# Altium integrated library NSC Interface.IntLib: 511 symbols (part 4 of 17)
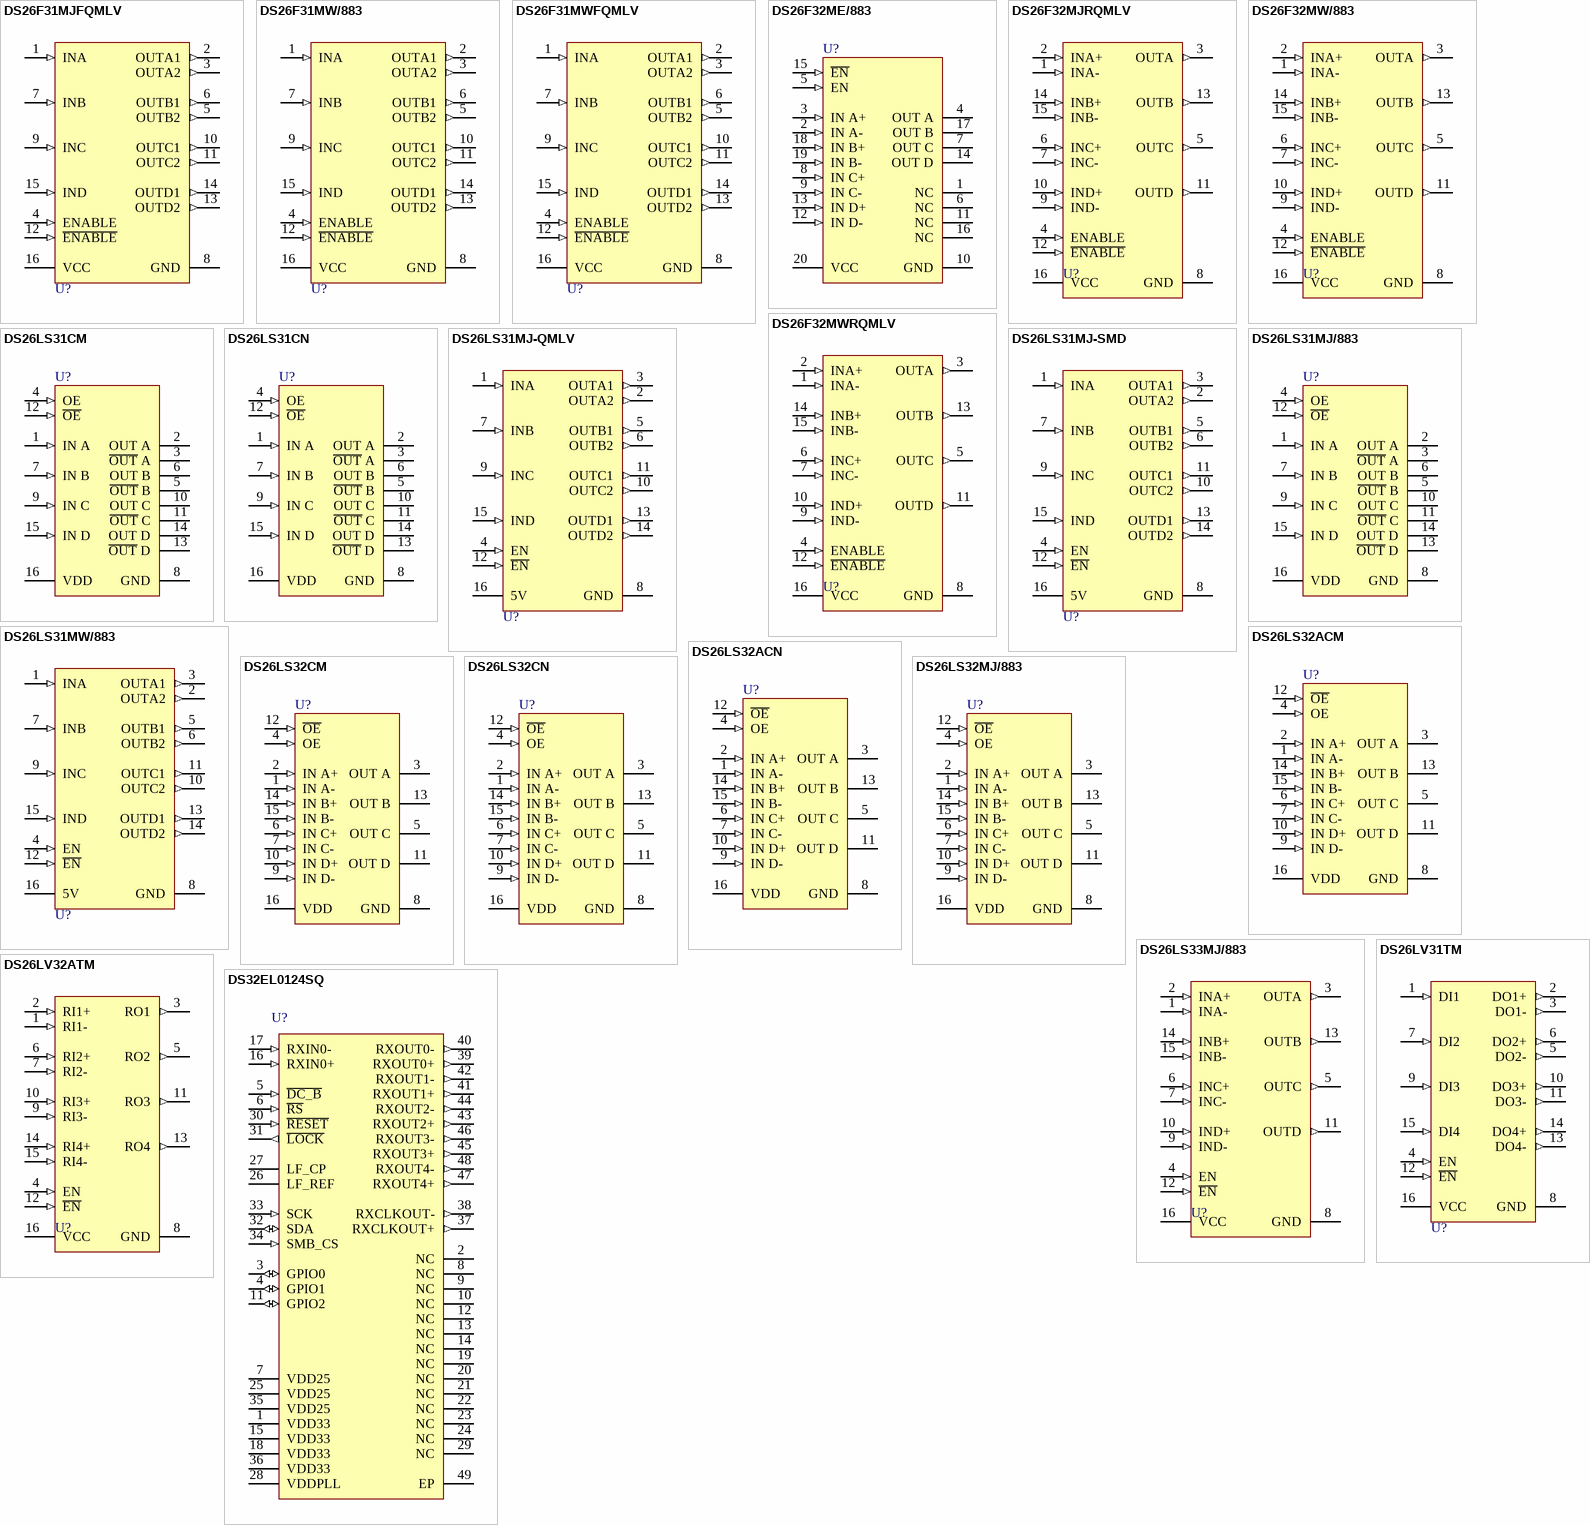
[diagram p45: symbols DS26F31MJFQMLV to DS32EL0124SQ]

## DS26F32ME/883
designator U?
Quad Differential Line Receiver; PartNumber: DS26F32ME/883; Manufacturer: National Semiconductor; CompType: Interface IC; PackageTopMarking: NS*ZSSXXYYA*DS26F32ME/*883 Q 5962-*7802005M2A; PowerWise: N; Published: 4-Dec-2008; DatasheetVersion: May-1999; PackageVersion: revF, May-2004; PackageReference: E20A; Publisher: Altium Limited; PackageDescription: Leadless Chip Carrier, Type C, 20 Terminal; RoHS: N; PinCount: 20; Code_JEDEC: MS-004-CB; ComponentLink1Description: DS26F32M Datasheet; ComponentLink1URL: http://www.national.com/ds/DS/DS26F32M.pdf; ComponentLink2Description: DS26F32M Web Page; ComponentLink2URL: http://www.national.com/pf/DS/DS26F32M.html; ComponentLink3Description: E20A Package Page; ComponentLink3URL: http://www.national.com/packaging/folders/e20a.html
footprint E20A_N (Leadless Chip Carrier, 20-Leads, Body 8.9x8.9mm, Pitch 1.27mm, IPC Medium Density)
footprint E20A_L (Leadless Chip Carrier, 20-Leads, Body 8.9x8.9mm, Pitch 1.27mm, IPC High Density)
footprint E20A_M (Leadless Chip Carrier, 20-Leads, Body 8.9x8.9mm, Pitch 1.27mm, IPC Low Density)
pins: 1 NC, 2 IN A- (in), 3 IN A+ (in), 4 OUT A (hiz), 5 EN (in), 6 NC, 7 OUT C (hiz), 8 IN C+ (in), 9 IN C- (in), 10 GND (power), 11 NC, 12 IN D- (in), 13 IN D+ (in), 14 OUT D (hiz), 15 ~{EN} (in), 16 NC, 17 OUT B (hiz), 18 IN B+ (in), 19 IN B- (in), 20 VCC (power)

## DS26F32MJRQMLV
designator U?
Quad Differential Line Receiver; PartNumber: DS26F32MJRQMLV; Manufacturer: National Semiconductor; CompType: Interface IC; PackageTopMarking: NSZSSXXYYA*DS26F32MJRQV Q*5962R7802005VEA; PowerWise: N; Published: 4-Dec-2008; DatasheetVersion: May-1999; PackageVersion: revL, Sep-1993; PackageReference: J16A; Publisher: Altium Limited; PackageDescription: Cerdip (J), 16 Lead; RoHS: N; PinCount: 16; ComponentLink1Description: DS26F32M Datasheet; ComponentLink1URL: http://www.national.com/ds/DS/DS26F32M.pdf; ComponentLink2Description: DS26F32M Web Page; ComponentLink2URL: http://www.national.com/pf/DS/DS26F32M.html; ComponentLink3Description: J16A Package Page; ComponentLink3URL: http://www.national.com/packaging/folders/j16a.html
footprint J16A (DIP, 16-Leads, Row Spacing 7.62mm, Pitch 2.54mm, Body 19.56x6.73mm)
pins: 1 INA- (in), 2 INA+ (in), 3 OUTA (out), 4 ENABLE (in), 5 OUTC (out), 6 INC+ (in), 7 INC- (in), 8 GND (power), 9 IND- (in), 10 IND+ (in), 11 OUTD (out), 12 ~{ENABLE} (in), 13 OUTB (out), 14 INB+ (in), 15 INB- (in), 16 VCC (power)

## DS26F32MW/883
designator U?
Quad Differential Line Receiver; PartNumber: DS26F32MW/883; Manufacturer: National Semiconductor; CompType: Interface IC; PackageTopMarking: NSZSSXXYYA*DS26F32MW*/883 5962-*7802005MFA*Q; PowerWise: N; MilaeroCode: B88; Published: 29-May-2009; DatasheetVersion: May-1999; PackageVersion: revT, Jul-2005; PackageReference: W16A; Publisher: Altium Limited; RoHS: N; PinCount: 16; Code_JEDEC: MO-092-AC; ComponentLink1Description: DS26F32M Datasheet; ComponentLink1URL: http://www.national.com/ds/DS/DS26F32M.pdf; ComponentLink2Description: DS26F32M Web Page; ComponentLink2URL: http://www.national.com/pf/DS/DS26F32M.html; ComponentLink3Description: W16A Package Page; ComponentLink3URL: http://www.national.com/packaging/folders/w16a.html
footprint W16A (DFP; 16 Leads; Body 9.9 x 7.6 mm (LxW max); Pitch 1.27 mm)
pins: 1 INA- (in), 2 INA+ (in), 3 OUTA (out), 4 ENABLE (in), 5 OUTC (out), 6 INC+ (in), 7 INC- (in), 8 GND (power), 9 IND- (in), 10 IND+ (in), 11 OUTD (out), 12 ~{ENABLE} (in), 13 OUTB (out), 14 INB+ (in), 15 INB- (in), 16 VCC (power)

## DS26F32MWRQMLV
designator U?
Quad Differential Line Receiver; PartNumber: DS26F32MWRQMLV; Manufacturer: National Semiconductor; CompType: Interface IC; PackageTopMarking: NSZSSXXYYA*DS26F32MWR*QV Q 5962R*7802005VFA; PowerWise: N; MilaeroCode: DXX; Published: 29-May-2009; DatasheetVersion: May-1999; PackageVersion: revT, Jul-2005; PackageReference: W16A; Publisher: Altium Limited; RoHS: N; PinCount: 16; Code_JEDEC: MO-092-AC; ComponentLink1Description: DS26F32M Datasheet; ComponentLink1URL: http://www.national.com/ds/DS/DS26F32M.pdf; ComponentLink2Description: DS26F32M Web Page; ComponentLink2URL: http://www.national.com/pf/DS/DS26F32M.html; ComponentLink3Description: W16A Package Page; ComponentLink3URL: http://www.national.com/packaging/folders/w16a.html
footprint W16A (DFP; 16 Leads; Body 9.9 x 7.6 mm (LxW max); Pitch 1.27 mm)
pins: 1 INA- (in), 2 INA+ (in), 3 OUTA (out), 4 ENABLE (in), 5 OUTC (out), 6 INC+ (in), 7 INC- (in), 8 GND (power), 9 IND- (in), 10 IND+ (in), 11 OUTD (out), 12 ~{ENABLE} (in), 13 OUTB (out), 14 INB+ (in), 15 INB- (in), 16 VCC (power)

## DS26LS31CM
designator U?
Quad High Speed Differential Line Driver; PartNumber: DS26LS31CM; Manufacturer: National Semiconductor; CompType: Interface IC; PackageTopMarking: NSUZXYTT*DS26LS31CM; PowerWise: N; Published: 4-Dec-2008; DatasheetVersion: Jun-1998; PackageVersion: revJ, Aug-1995; PackageReference: M16A; Publisher: Altium Limited; PackageDescription: Molded Package, S.O., .150in Wide, 16 Lead; RoHS: O; PinCount: 16; DigiKeyPartNumber: DS26LS31CM-ND; Code_JEDEC: MS-012-AC; Code_IPC: SOIC127P600-16; ComponentLink1Description: DS26LS31C Datasheet; ComponentLink1URL: http://www.national.com/ds/DS/DS26LS31C.pdf; ComponentLink2Description: DS26LS31C Web Page; ComponentLink2URL: http://www.national.com/pf/DS/DS26LS31C.html; ComponentLink3Description: M16A Package Page; ComponentLink3URL: http://www.national.com/packaging/folders/m16a.html
footprint M16A_N (SOIC, 16-Leads, Body 9.9x3.9mm, Pitch 1.27mm, IPC Medium Density)
footprint M16A_L (SOIC, 16-Leads, Body 9.9x3.9mm, Pitch 1.27mm, IPC High Density)
footprint M16A_M (SOIC, 16-Leads, Body 9.9x3.9mm, Pitch 1.27mm, IPC Low Density)
pins: 1 IN A (in), 2 OUT A (hiz), 3 ~{OUT} A (hiz), 4 OE (in), 5 ~{OUT} B (hiz), 6 OUT B (hiz), 7 IN B (in), 8 GND (power), 9 IN C (in), 10 OUT C (hiz), 11 ~{OUT} C (hiz), 12 ~{OE} (in), 13 ~{OUT} D (hiz), 14 OUT D (hiz), 15 IN D (in), 16 VDD (power)

## DS26LS31CN
designator U?
Quad High Speed Differential Line Driver; PartNumber: DS26LS31CN; Manufacturer: National Semiconductor; CompType: Interface IC; PackageTopMarking: NSUZXYYTT*DS26LS31CN*AM26LS31PC; PowerWise: N; Published: 4-Dec-2008; DatasheetVersion: Jun-1998; PackageVersion: revG, May-2006; PackageReference: N16E; Publisher: Altium Limited; PackageDescription: MDIP, .750 x .250 x.130in, 16 Lead, .100in Pitch; RoHS: O; PinCount: 16; DigiKeyPartNumber: DS26LS31CN-ND; Code_JEDEC: MS-001-BB; ComponentLink1Description: DS26LS31C Datasheet; ComponentLink1URL: http://www.national.com/ds/DS/DS26LS31C.pdf; ComponentLink2Description: DS26LS31C Web Page; ComponentLink2URL: http://www.national.com/pf/DS/DS26LS31C.html; ComponentLink3Description: N16E Package Page; ComponentLink3URL: http://www.national.com/packaging/folders/n16e.html
footprint N16E (DIP, 16-Leads, Row Spacing 7.62mm, Pitch 2.54mm, Body 19.3x6.35mm)
pins: 1 IN A (in), 2 OUT A (hiz), 3 ~{OUT} A (hiz), 4 OE (in), 5 ~{OUT} B (hiz), 6 OUT B (hiz), 7 IN B (in), 8 GND (power), 9 IN C (in), 10 OUT C (hiz), 11 ~{OUT} C (hiz), 12 ~{OE} (in), 13 ~{OUT} D (hiz), 14 OUT D (hiz), 15 IN D (in), 16 VDD (power)

## DS26LS31MJ-QMLV
designator U?
Quad High Speed Differential Line Driver; PartNumber: DS26LS31MJ-SMD; Manufacturer: National Semiconductor; CompType: Interface IC; PackageTopMarking: NSZSSXXYYA*5962-7802301MEA*27014 Q; PowerWise: N; Published: 4-Dec-2008; DatasheetVersion: Jun-1998; PackageVersion: revL, Sep-1993; PackageReference: J16A; Publisher: Altium Limited; PackageDescription: Cerdip (J), 16 Lead; RoHS: N; PinCount: 16; ComponentLink1Description: DS26LS31M Datasheet; ComponentLink1URL: http://www.national.com/ds/DS/DS26LS31M.pdf; ComponentLink2Description: DS26LS31M Web Page; ComponentLink2URL: http://www.national.com/pf/DS/DS26LS31M.html; ComponentLink3Description: J16A Package Page; ComponentLink3URL: http://www.national.com/packaging/folders/j16a.html
footprint J16A (DIP, 16-Leads, Row Spacing 7.62mm, Pitch 2.54mm, Body 19.56x6.73mm)
pins: 1 INA (in), 2 OUTA2 (out), 3 OUTA1 (out), 4 EN (in), 5 OUTB1 (out), 6 OUTB2 (out), 7 INB (in), 8 GND (power), 9 INC (in), 10 OUTC2 (out), 11 OUTC1 (out), 12 ~{EN} (in), 13 OUTD1 (out), 14 OUTD2 (out), 15 IND (in), 16 5V (power)

## DS26LS31MJ-SMD
designator U?
Quad High Speed Differential Line Driver; PartNumber: DS26LS31MJ/883; Manufacturer: National Semiconductor; CompType: Interface IC; PackageTopMarking: NSZSSXXYYA*DS26LS31MJ/883 Q; PowerWise: N; Published: 4-Dec-2008; DatasheetVersion: Jun-1998; PackageVersion: revL, Sep-1993; PackageReference: J16A; Publisher: Altium Limited; PackageDescription: Cerdip (J), 16 Lead; RoHS: N; PinCount: 16; ComponentLink1Description: DS26LS31M Datasheet; ComponentLink1URL: http://www.national.com/ds/DS/DS26LS31M.pdf; ComponentLink2Description: DS26LS31M Web Page; ComponentLink2URL: http://www.national.com/pf/DS/DS26LS31M.html; ComponentLink3Description: J16A Package Page; ComponentLink3URL: http://www.national.com/packaging/folders/j16a.html
footprint J16A (DIP, 16-Leads, Row Spacing 7.62mm, Pitch 2.54mm, Body 19.56x6.73mm)
pins: 1 INA (in), 2 OUTA2 (out), 3 OUTA1 (out), 4 EN (in), 5 OUTB1 (out), 6 OUTB2 (out), 7 INB (in), 8 GND (power), 9 INC (in), 10 OUTC2 (out), 11 OUTC1 (out), 12 ~{EN} (in), 13 OUTD1 (out), 14 OUTD2 (out), 15 IND (in), 16 5V (power)

## DS26LS31MJ/883
designator U?
Quad High Speed Differential Line Driver; PartNumber: DS26LS31MJ-QMLV; Manufacturer: National Semiconductor; CompType: Interface IC; PackageTopMarking: NSZSSXXYYA*DS26LS31MJ-QV Q*5962-7802301VEA; PowerWise: N; Published: 4-Dec-2008; DatasheetVersion: Jun-1998; PackageVersion: revL, Sep-1993; PackageReference: J16A; Publisher: Altium Limited; PackageDescription: Cerdip (J), 16 Lead; RoHS: N; PinCount: 16; ComponentLink1Description: DS26LS31M Datasheet; ComponentLink1URL: http://www.national.com/ds/DS/DS26LS31M.pdf; ComponentLink2Description: DS26LS31M Web Page; ComponentLink2URL: http://www.national.com/pf/DS/DS26LS31M.html; ComponentLink3Description: J16A Package Page; ComponentLink3URL: http://www.national.com/packaging/folders/j16a.html
footprint J16A (DIP, 16-Leads, Row Spacing 7.62mm, Pitch 2.54mm, Body 19.56x6.73mm)
pins: 1 IN A (in), 2 OUT A (hiz), 3 ~{OUT} A (hiz), 4 OE (in), 5 ~{OUT} B (hiz), 6 OUT B (hiz), 7 IN B (in), 8 GND (power), 9 IN C (in), 10 OUT C (hiz), 11 ~{OUT} C (hiz), 12 ~{OE} (in), 13 ~{OUT} D (hiz), 14 OUT D (hiz), 15 IN D (in), 16 VDD (power)

## DS26LS31MW/883
designator U?
Quad High Speed Differential Line Driver; PartNumber: DS26LS31MW/883; Manufacturer: National Semiconductor; CompType: Interface IC; PackageTopMarking: NSZSSXXYYA*DS26LS31MW*/883 Q; PowerWise: N; MilaeroCode: B88; Published: 29-May-2009; DatasheetVersion: Jun-1998; PackageVersion: revT, Jul-2005; PackageReference: W16A; Publisher: Altium Limited; RoHS: N; PinCount: 16; Code_JEDEC: MO-092-AC; ComponentLink1Description: DS26LS31M Datasheet; ComponentLink1URL: http://www.national.com/ds/DS/DS26LS31M.pdf; ComponentLink2Description: DS26LS31M Web Page; ComponentLink2URL: http://www.national.com/pf/DS/DS26LS31M.html; ComponentLink3Description: W16A Package Page; ComponentLink3URL: http://www.national.com/packaging/folders/w16a.html
footprint W16A (DFP; 16 Leads; Body 9.9 x 7.6 mm (LxW max); Pitch 1.27 mm)
pins: 1 INA (in), 2 OUTA2 (out), 3 OUTA1 (out), 4 EN (in), 5 OUTB1 (out), 6 OUTB2 (out), 7 INB (in), 8 GND (power), 9 INC (in), 10 OUTC2 (out), 11 OUTC1 (out), 12 ~{EN} (in), 13 OUTD1 (out), 14 OUTD2 (out), 15 IND (in), 16 5V (power)

## DS26LS32ACM
designator U?
Quad Differential Line Receiver; PartNumber: DS26LS32ACM; Manufacturer: National Semiconductor; CompType: Interface IC; PackageTopMarking: NSUZXYTT*DS26LS32*ACM; PowerWise: N; Published: 4-Dec-2008; DatasheetVersion: May-1999; PackageVersion: revJ, Aug-1995; PackageReference: M16A; Publisher: Altium Limited; PackageDescription: Molded Package, S.O., .150in Wide, 16 Lead; RoHS: O; PinCount: 16; DigiKeyPartNumber: DS26LS32ACM-ND; Code_JEDEC: MS-012-AC; Code_IPC: SOIC127P600-16; ComponentLink1Description: DS26LS32AC Datasheet; ComponentLink1URL: http://www.national.com/ds/DS/DS26LS32AC.pdf; ComponentLink2Description: DS26LS32AC Web Page; ComponentLink2URL: http://www.national.com/pf/DS/DS26LS32AC.html; ComponentLink3Description: M16A Package Page; ComponentLink3URL: http://www.national.com/packaging/folders/m16a.html
footprint M16A_N (SOIC, 16-Leads, Body 9.9x3.9mm, Pitch 1.27mm, IPC Medium Density)
footprint M16A_L (SOIC, 16-Leads, Body 9.9x3.9mm, Pitch 1.27mm, IPC High Density)
footprint M16A_M (SOIC, 16-Leads, Body 9.9x3.9mm, Pitch 1.27mm, IPC Low Density)
pins: 1 IN A- (in), 2 IN A+ (in), 3 OUT A (hiz), 4 OE (in), 5 OUT C (hiz), 6 IN C+ (in), 7 IN C- (in), 8 GND (power), 9 IN D- (in), 10 IN D+ (in), 11 OUT D (hiz), 12 ~{OE} (in), 13 OUT B (hiz), 14 IN B+ (in), 15 IN B- (in), 16 VDD (power)

## DS26LS32ACN
designator U?
Quad Differential Line Receiver; PartNumber: DS26LS32ACN; Manufacturer: National Semiconductor; CompType: Interface IC; PackageTopMarking: NSUZXYYTT*DS26LS32ACN; PowerWise: N; Published: 4-Dec-2008; DatasheetVersion: May-1999; PackageVersion: revG, May-2006; PackageReference: N16E; Publisher: Altium Limited; PackageDescription: MDIP, .750 x .250 x.130in, 16 Lead, .100in Pitch; RoHS: O; PinCount: 16; DigiKeyPartNumber: DS26LS32ACN-ND; Code_JEDEC: MS-001-BB; ComponentLink1Description: DS26LS32AC Datasheet; ComponentLink1URL: http://www.national.com/ds/DS/DS26LS32AC.pdf; ComponentLink2Description: DS26LS32AC Web Page; ComponentLink2URL: http://www.national.com/pf/DS/DS26LS32AC.html; ComponentLink3Description: N16E Package Page; ComponentLink3URL: http://www.national.com/packaging/folders/n16e.html
footprint N16E (DIP, 16-Leads, Row Spacing 7.62mm, Pitch 2.54mm, Body 19.3x6.35mm)
pins: 1 IN A- (in), 2 IN A+ (in), 3 OUT A (hiz), 4 OE (in), 5 OUT C (hiz), 6 IN C+ (in), 7 IN C- (in), 8 GND (power), 9 IN D- (in), 10 IN D+ (in), 11 OUT D (hiz), 12 ~{OE} (in), 13 OUT B (hiz), 14 IN B+ (in), 15 IN B- (in), 16 VDD (power)

## DS26LS32CM
designator U?
Quad Differential Line Receiver; PartNumber: DS26LS32CM; Manufacturer: National Semiconductor; CompType: Interface IC; PackageTopMarking: NSUZXYTT*DS26LS32CM; PowerWise: N; Published: 4-Dec-2008; DatasheetVersion: May-1999; PackageVersion: revJ, Aug-1995; PackageReference: M16A; Publisher: Altium Limited; PackageDescription: Molded Package, S.O., .150in Wide, 16 Lead; RoHS: Y; PinCount: 16; DigiKeyPartNumber: DS26LS32CM-ND; Code_JEDEC: MS-012-AC; Code_IPC: SOIC127P600-16; ComponentLink1Description: DS26LS32C Datasheet; ComponentLink1URL: http://www.national.com/ds/DS/DS26LS32C.pdf; ComponentLink2Description: DS26LS32C Web Page; ComponentLink2URL: http://www.national.com/pf/DS/DS26LS32C.html; ComponentLink3Description: M16A Package Page; ComponentLink3URL: http://www.national.com/packaging/folders/m16a.html
footprint M16A_N (SOIC, 16-Leads, Body 9.9x3.9mm, Pitch 1.27mm, IPC Medium Density)
footprint M16A_L (SOIC, 16-Leads, Body 9.9x3.9mm, Pitch 1.27mm, IPC High Density)
footprint M16A_M (SOIC, 16-Leads, Body 9.9x3.9mm, Pitch 1.27mm, IPC Low Density)
pins: 1 IN A- (in), 2 IN A+ (in), 3 OUT A (hiz), 4 OE (in), 5 OUT C (hiz), 6 IN C+ (in), 7 IN C- (in), 8 GND (power), 9 IN D- (in), 10 IN D+ (in), 11 OUT D (hiz), 12 ~{OE} (in), 13 OUT B (hiz), 14 IN B+ (in), 15 IN B- (in), 16 VDD (power)

## DS26LS32CN
designator U?
Quad Differential Line Receiver; PartNumber: DS26LS32CN; Manufacturer: National Semiconductor; CompType: Interface IC; PackageTopMarking: NSUZXYYTT*DS26LS32CN; PowerWise: N; Published: 4-Dec-2008; DatasheetVersion: May-1999; PackageVersion: revG, May-2006; PackageReference: N16E; Publisher: Altium Limited; PackageDescription: MDIP, .750 x .250 x.130in, 16 Lead, .100in Pitch; RoHS: O; PinCount: 16; DigiKeyPartNumber: DS26LS32CN-ND; Code_JEDEC: MS-001-BB; ComponentLink1Description: DS26LS32C Datasheet; ComponentLink1URL: http://www.national.com/ds/DS/DS26LS32C.pdf; ComponentLink2Description: DS26LS32C Web Page; ComponentLink2URL: http://www.national.com/pf/DS/DS26LS32C.html; ComponentLink3Description: N16E Package Page; ComponentLink3URL: http://www.national.com/packaging/folders/n16e.html
footprint N16E (DIP, 16-Leads, Row Spacing 7.62mm, Pitch 2.54mm, Body 19.3x6.35mm)
pins: 1 IN A- (in), 2 IN A+ (in), 3 OUT A (hiz), 4 OE (in), 5 OUT C (hiz), 6 IN C+ (in), 7 IN C- (in), 8 GND (power), 9 IN D- (in), 10 IN D+ (in), 11 OUT D (hiz), 12 ~{OE} (in), 13 OUT B (hiz), 14 IN B+ (in), 15 IN B- (in), 16 VDD (power)

## DS26LS32MJ/883
designator U?
Quad Differential Line Receiver; PartNumber: DS26LS32MJ/883; Manufacturer: National Semiconductor; CompType: Interface IC; PackageTopMarking: NSZSSXXYYA*5962-7802006QEA*DS26LS32MJ/883 Q; PowerWise: N; Published: 4-Dec-2008; DatasheetVersion: May-1999; PackageVersion: revL, Sep-1993; PackageReference: J16A; Publisher: Altium Limited; PackageDescription: Cerdip (J), 16 Lead; RoHS: N; PinCount: 16; ComponentLink1Description: DS26LS32M Datasheet; ComponentLink1URL: http://www.national.com/ds/DS/DS26LS32M.pdf; ComponentLink2Description: DS26LS32M Web Page; ComponentLink2URL: http://www.national.com/pf/DS/DS26LS32M.html; ComponentLink3Description: J16A Package Page; ComponentLink3URL: http://www.national.com/packaging/folders/j16a.html
footprint J16A (DIP, 16-Leads, Row Spacing 7.62mm, Pitch 2.54mm, Body 19.56x6.73mm)
pins: 1 IN A- (in), 2 IN A+ (in), 3 OUT A (hiz), 4 OE (in), 5 OUT C (hiz), 6 IN C+ (in), 7 IN C- (in), 8 GND (power), 9 IN D- (in), 10 IN D+ (in), 11 OUT D (hiz), 12 ~{OE} (in), 13 OUT B (hiz), 14 IN B+ (in), 15 IN B- (in), 16 VDD (power)

## DS26LS33MJ/883
designator U?
Quad Differential Line Receiver; PartNumber: DS26LS33MJ/883; Manufacturer: National Semiconductor; CompType: Interface IC; PackageTopMarking: NSZSSXXYYA*DS26LS33MJ/883 Q; PowerWise: N; Published: 4-Dec-2008; DatasheetVersion: May-1999; PackageVersion: revL, Sep-1993; PackageReference: J16A; Publisher: Altium Limited; PackageDescription: Cerdip (J), 16 Lead; RoHS: N; PinCount: 16; ComponentLink1Description: DS26LS33M Datasheet; ComponentLink1URL: http://www.national.com/ds/DS/DS26LS33M.pdf; ComponentLink2Description: DS26LS33M Web Page; ComponentLink2URL: http://www.national.com/pf/DS/DS26LS33M.html; ComponentLink3Description: J16A Package Page; ComponentLink3URL: http://www.national.com/packaging/folders/j16a.html
footprint J16A (DIP, 16-Leads, Row Spacing 7.62mm, Pitch 2.54mm, Body 19.56x6.73mm)
pins: 1 INA- (in), 2 INA+ (in), 3 OUTA (out), 4 EN (in), 5 OUTC (out), 6 INC+ (in), 7 INC- (in), 8 GND (power), 9 IND- (in), 10 IND+ (in), 11 OUTD (out), 12 ~{EN} (in), 13 OUTB (out), 14 INB+ (in), 15 INB- (in), 16 VCC (power)

## DS26LV31TM
designator U?
3V Enhanced CMOS Quad Differential Line Driver; PartNumber: DS26LV31TM; Manufacturer: National Semiconductor; CompType: Interface IC; PackageTopMarking: NSUZXYTT*DS26LV31*TM; PowerWise: N; Published: 4-Dec-2008; DatasheetVersion: Mar-2000; PackageVersion: revJ, Aug-1995; PackageReference: M16A; Publisher: Altium Limited; PackageDescription: Molded Package, S.O., .150in Wide, 16 Lead; RoHS: O; PinCount: 16; DigiKeyPartNumber: DS26LV31TM-ND; Code_JEDEC: MS-012-AC; Code_IPC: SOIC127P600-16; ComponentLink1Description: DS26LV31T Datasheet; ComponentLink1URL: http://www.national.com/ds/DS/DS26LV31T.pdf; ComponentLink2Description: DS26LV31T Web Page; ComponentLink2URL: http://www.national.com/pf/DS/DS26LV31T.html; ComponentLink3Description: M16A Package Page; ComponentLink3URL: http://www.national.com/packaging/folders/m16a.html
footprint M16A_N (SOIC, 16-Leads, Body 9.9x3.9mm, Pitch 1.27mm, IPC Medium Density)
footprint M16A_L (SOIC, 16-Leads, Body 9.9x3.9mm, Pitch 1.27mm, IPC High Density)
footprint M16A_M (SOIC, 16-Leads, Body 9.9x3.9mm, Pitch 1.27mm, IPC Low Density)
pins: 1 DI1 (in), 2 DO1+ (out), 3 DO1- (out), 4 EN (in), 5 DO2- (out), 6 DO2+ (out), 7 DI2 (in), 8 GND (power), 9 DI3 (in), 10 DO3+ (out), 11 DO3- (out), 12 ~{EN} (in), 13 DO4- (out), 14 DO4+ (out), 15 DI4 (in), 16 VCC (power)

## DS26LV32ATM
designator U?
3V Enhanced CMOS Quad Differential Line Receiver; PartNumber: DS26LV32ATM; Manufacturer: National Semiconductor; CompType: Interface IC; PackageTopMarking: NSUZXYTT*DS26LV32A*TM; PowerWise: N; Published: 4-Dec-2008; DatasheetVersion: Apr-2008; PackageVersion: revJ, Aug-1995; PackageReference: M16A; Publisher: Altium Limited; PackageDescription: Molded Package, S.O., .150in Wide, 16 Lead; RoHS: O; PinCount: 16; DigiKeyPartNumber: DS26LV32ATM-ND; Code_JEDEC: MS-012-AC; Code_IPC: SOIC127P600-16; ComponentLink1Description: DS26LV32AT Datasheet; ComponentLink1URL: http://www.national.com/ds/DS/DS26LV32AT.pdf; ComponentLink2Description: DS26LV32AT Web Page; ComponentLink2URL: http://www.national.com/pf/DS/DS26LV32AT.html; ComponentLink3Description: M16A Package Page; ComponentLink3URL: http://www.national.com/packaging/folders/m16a.html
footprint M16A_N (SOIC, 16-Leads, Body 9.9x3.9mm, Pitch 1.27mm, IPC Medium Density)
footprint M16A_L (SOIC, 16-Leads, Body 9.9x3.9mm, Pitch 1.27mm, IPC High Density)
footprint M16A_M (SOIC, 16-Leads, Body 9.9x3.9mm, Pitch 1.27mm, IPC Low Density)
pins: 1 RI1- (in), 2 RI1+ (in), 3 RO1 (out), 4 EN (in), 5 RO2 (out), 6 RI2+ (in), 7 RI2- (in), 8 GND (power), 9 RI3- (in), 10 RI3+ (in), 11 RO3 (out), 12 ~{EN} (in), 13 RO4 (out), 14 RI4+ (in), 15 RI4- (in), 16 VCC (power)

## DS32EL0124SQ
designator U?
125 - 312.5 MHz Deserializer with DDR LVDS Parallel Interface; PartNumber: DS32EL0124SQ; Manufacturer: National Semiconductor; CompType: Interface IC; PackageTopMarking: NS*UZXYTT*32EL0124; PowerWise: N; Published: 4-Dec-2008; DatasheetVersion: Jul-2008; PackageVersion: revA, May-2003; PackageReference: SQA48A; Publisher: Altium Limited; RoHS: Y; PinCount: 48; DigiKeyPartNumber: DS32EL0124SQ-ND; Code_JEDEC: MO-220-WKKD-2; ComponentLink1Description: DS32EL0124 Datasheet; ComponentLink1URL: http://www.national.com/ds/DS/DS32EL0124.pdf; ComponentLink2Description: DS32EL0124 Web Page; ComponentLink2URL: http://www.national.com/pf/DS/DS32EL0124.html; ComponentLink3Description: SQA48A Package Page; ComponentLink3URL: http://www.national.com/packaging/folders/sqa48a.html
footprint SQA48A (QFN, 48-Leads, Body 7x7mm, Pitch 0.5mm, NSC Recommended)
pins: 1 VDD33 (power), 2 NC, 3 GPIO0 (io), 4 GPIO1 (io), 5 ~{DC_B} (in), 6 ~{RS} (in), 7 VDD25 (power), 8 NC, 9 NC, 10 NC, 11 GPIO2 (io), 12 NC, 13 NC, 14 NC, 15 VDD33 (power), 16 RXIN0+ (in), 17 RXIN0- (in), 18 VDD33 (power), 19 NC, 20 NC, 21 NC, 22 NC, 23 NC, 24 NC, 25 VDD25 (power), 26 LF_REF, 27 LF_CP, 28 VDDPLL (power), 29 NC, 30 ~{RESET} (in), 31 ~{LOCK} (out), 32 SDA (io), 33 SCK (in), 34 SMB_CS (in), 35 VDD25 (power), 36 VDD33 (power), 37 RXCLKOUT+ (out), 38 RXCLKOUT- (out), 39 RXOUT0+ (out), 40 RXOUT0- (out), 41 RXOUT1+ (out), 42 RXOUT1- (out), 43 RXOUT2+ (out), 44 RXOUT2- (out), 45 RXOUT3+ (out), 46 RXOUT3- (out), 47 RXOUT4+ (out), 48 RXOUT4- (out), 49 EP (power)

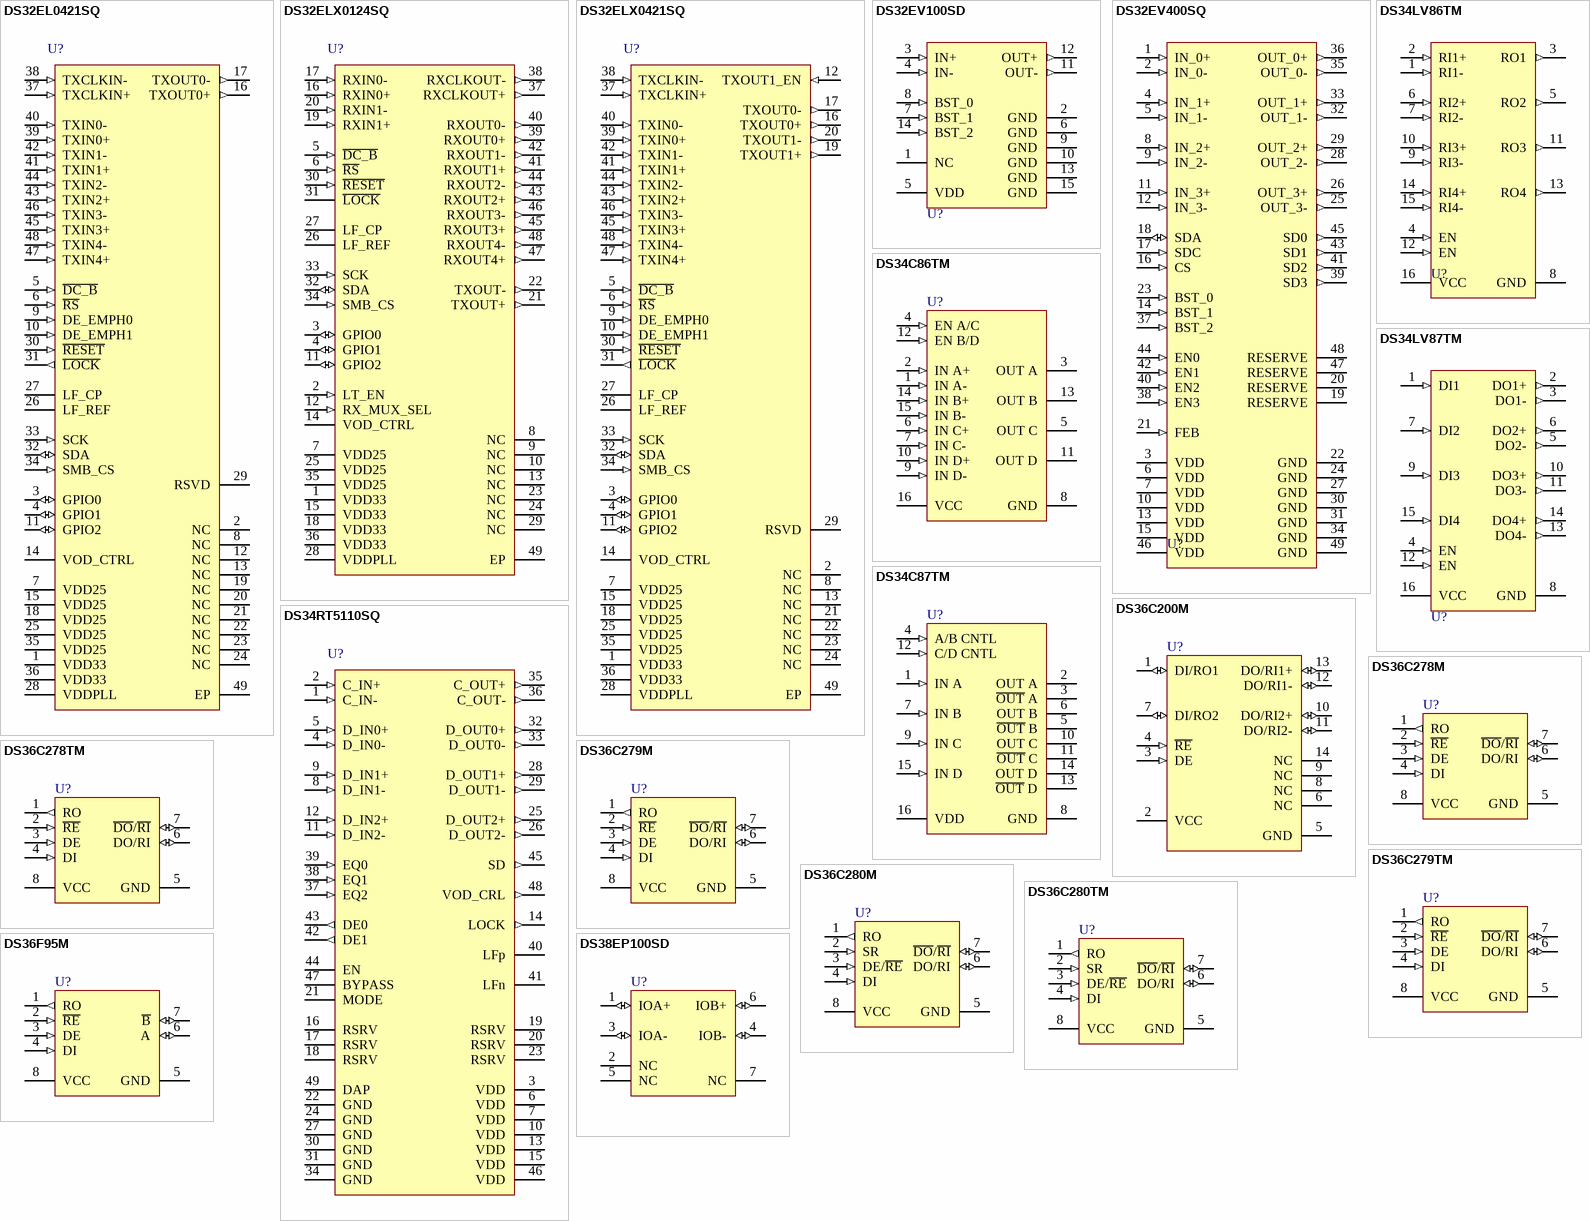
[diagram p10: symbols DS32EL0421SQ to DS38EP100SD]

## DS32EL0421SQ
designator U?
125 - 312.5 MHz Serializer with DDR LVDS Parallel LVDS Interface; PartNumber: DS32EL0421SQ; Manufacturer: National Semiconductor; CompType: Interface IC; PackageTopMarking: NS*UZXYTT*32EL0421; PowerWise: N; Published: 4-Dec-2008; DatasheetVersion: Jul-2008; PackageVersion: revA, May-2003; PackageReference: SQA48A; Publisher: Altium Limited; RoHS: Y; PinCount: 48; Code_JEDEC: MO-220-WKKD-2; ComponentLink1Description: DS32EL0421 Datasheet; ComponentLink1URL: http://www.national.com/ds/DS/DS32EL0421.pdf; ComponentLink2Description: DS32EL0421 Web Page; ComponentLink2URL: http://www.national.com/pf/DS/DS32EL0421.html; ComponentLink3Description: SQA48A Package Page; ComponentLink3URL: http://www.national.com/packaging/folders/sqa48a.html
footprint SQA48A (QFN, 48-Leads, Body 7x7mm, Pitch 0.5mm, NSC Recommended)
pins: 1 VDD33 (power), 2 NC, 3 GPIO0 (io), 4 GPIO1 (io), 5 ~{DC_B} (in), 6 ~{RS} (in), 7 VDD25 (power), 8 NC, 9 DE_EMPH0 (in), 10 DE_EMPH1 (in), 11 GPIO2 (io), 12 NC, 13 NC, 14 VOD_CTRL, 15 VDD25 (power), 16 TXOUT0+ (out), 17 TXOUT0- (out), 18 VDD25 (power), 19 NC, 20 NC, 21 NC, 22 NC, 23 NC, 24 NC, 25 VDD25 (power), 26 LF_REF, 27 LF_CP, 28 VDDPLL (power), 29 RSVD, 30 ~{RESET} (in), 31 ~{LOCK} (out), 32 SDA (io), 33 SCK (in), 34 SMB_CS (in), 35 VDD25 (power), 36 VDD33 (power), 37 TXCLKIN+ (in), 38 TXCLKIN- (in), 39 TXIN0+ (in), 40 TXIN0- (in), 41 TXIN1+ (in), 42 TXIN1- (in), 43 TXIN2+ (in), 44 TXIN2- (in), 45 TXIN3+ (in), 46 TXIN3- (in), 47 TXIN4+ (in), 48 TXIN4- (in), 49 EP (power)

## DS32ELX0124SQ
designator U?
125 - 312.5 MHz Deserializer with DDR LVDS Parallel Interface; PartNumber: DS32ELX0124SQ; Manufacturer: National Semiconductor; CompType: Interface IC; PackageTopMarking: NS*UZXYTT*32ELX0124; PowerWise: N; Published: 4-Dec-2008; DatasheetVersion: Jul-2008; PackageVersion: revA, May-2003; PackageReference: SQA48A; Publisher: Altium Limited; RoHS: Y; PinCount: 48; DigiKeyPartNumber: DS32ELX0124SQ-ND; Code_JEDEC: MO-220-WKKD-2; ComponentLink1Description: DS32ELX0124 Datasheet; ComponentLink1URL: http://www.national.com/ds/DS/DS32ELX0124.pdf; ComponentLink2Description: DS32ELX0124 Web Page; ComponentLink2URL: http://www.national.com/pf/DS/DS32ELX0124.html; ComponentLink3Description: SQA48A Package Page; ComponentLink3URL: http://www.national.com/packaging/folders/sqa48a.html
footprint SQA48A (QFN, 48-Leads, Body 7x7mm, Pitch 0.5mm, NSC Recommended)
pins: 1 VDD33 (power), 2 LT_EN (in), 3 GPIO0 (io), 4 GPIO1 (io), 5 ~{DC_B} (in), 6 ~{RS} (in), 7 VDD25 (power), 8 NC, 9 NC, 10 NC, 11 GPIO2 (io), 12 RX_MUX_SEL (in), 13 NC, 14 VOD_CTRL, 15 VDD33 (power), 16 RXIN0+ (in), 17 RXIN0- (in), 18 VDD33 (power), 19 RXIN1+ (in), 20 RXIN1- (in), 21 TXOUT+ (out), 22 TXOUT- (out), 23 NC, 24 NC, 25 VDD25 (power), 26 LF_REF, 27 LF_CP, 28 VDDPLL (power), 29 NC, 30 ~{RESET} (in), 31 ~{LOCK} (oc), 32 SDA (io), 33 SCK (in), 34 SMB_CS (in), 35 VDD25 (power), 36 VDD33 (power), 37 RXCLKOUT+ (out), 38 RXCLKOUT- (out), 39 RXOUT0+ (out), 40 RXOUT0- (out), 41 RXOUT1+ (out), 42 RXOUT1- (out), 43 RXOUT2+ (out), 44 RXOUT2- (out), 45 RXOUT3+ (out), 46 RXOUT3- (out), 47 RXOUT4+ (out), 48 RXOUT4- (out), 49 EP (power)

## DS32ELX0421SQ
designator U?
125 - 312.5 MHz Serializer with DDR LVDS Parallel LVDS Interface; PartNumber: DS32ELX0421SQ; Manufacturer: National Semiconductor; CompType: Interface IC; PackageTopMarking: NS*UZXYTT*32ELX0421; PowerWise: N; Published: 4-Dec-2008; DatasheetVersion: Jul-2008; PackageVersion: revA, May-2003; PackageReference: SQA48A; Publisher: Altium Limited; RoHS: Y; PinCount: 48; Code_JEDEC: MO-220-WKKD-2; ComponentLink1Description: DS32ELX0421 Datasheet; ComponentLink1URL: http://www.national.com/ds/DS/DS32ELX0421.pdf; ComponentLink2Description: DS32ELX0421 Web Page; ComponentLink2URL: http://www.national.com/pf/DS/DS32ELX0421.html; ComponentLink3Description: SQA48A Package Page; ComponentLink3URL: http://www.national.com/packaging/folders/sqa48a.html
footprint SQA48A (QFN, 48-Leads, Body 7x7mm, Pitch 0.5mm, NSC Recommended)
pins: 1 VDD33 (power), 2 NC, 3 GPIO0 (io), 4 GPIO1 (io), 5 ~{DC_B} (in), 6 ~{RS} (in), 7 VDD25 (power), 8 NC, 9 DE_EMPH0 (in), 10 DE_EMPH1 (in), 11 GPIO2 (io), 12 TXOUT1_EN (in), 13 NC, 14 VOD_CTRL, 15 VDD25 (power), 16 TXOUT0+ (out), 17 TXOUT0- (out), 18 VDD25 (power), 19 TXOUT1+ (out), 20 TXOUT1- (out), 21 NC, 22 NC, 23 NC, 24 NC, 25 VDD25 (power), 26 LF_REF, 27 LF_CP, 28 VDDPLL (power), 29 RSVD, 30 ~{RESET} (in), 31 ~{LOCK} (out), 32 SDA (io), 33 SCK (in), 34 SMB_CS (in), 35 VDD25 (power), 36 VDD33 (power), 37 TXCLKIN+ (in), 38 TXCLKIN- (in), 39 TXIN0+ (in), 40 TXIN0- (in), 41 TXIN1+ (in), 42 TXIN1- (in), 43 TXIN2+ (in), 44 TXIN2- (in), 45 TXIN3+ (in), 46 TXIN3- (in), 47 TXIN4+ (in), 48 TXIN4- (in), 49 EP (power)

## DS32EV100SD
designator U?
Programmable Single Equalizer; PartNumber: DS32EV100SD; Manufacturer: National Semiconductor; CompType: Interface IC; PackageTopMarking: ZXYTT*D32E1SD; PowerWise: N; Published: 4-Dec-2008; DatasheetVersion: Apr-2008; PackageVersion: revA, Jun-2003; PackageReference: SDA14A; Publisher: Altium Limited; PackageDescription: LLP, Plastic, Dual, 4 x 3 x 0.8mm Body, 14 Lead, 0.5mm Pitch, No Pullback; RoHS: Y; PinCount: 14; ComponentLink1Description: DS32EV100 Datasheet; ComponentLink1URL: http://www.national.com/ds/DS/DS32EV100.pdf; ComponentLink2Description: DS32EV100 Web Page; ComponentLink2URL: http://www.national.com/pf/DS/DS32EV100.html; ComponentLink3Description: SDA14A Package Page; ComponentLink3URL: http://www.national.com/packaging/folders/sda14a.html
footprint SDA14A (SON, 14-Leads, Body 4x3mm, Pitch 0.5mm, NSC Recommended)
pins: 1 NC, 2 GND (power), 3 IN+ (in), 4 IN- (in), 5 VDD (power), 6 GND (power), 7 BST_1 (in), 8 BST_0 (in), 9 GND (power), 10 GND (power), 11 OUT- (out), 12 OUT+ (out), 13 GND (power), 14 BST_2 (in), 15 GND (power)

## DS32EV400SQ
designator U?
DS32EV400  Programmable Quad Equalizer; PartNumber: DS32EV400SQ; Manufacturer: National Semiconductor; CompType: Interface IC; PackageTopMarking: NS*UZXYTT*DS32EV400; PowerWise: Y; Published: 4-Dec-2008; DatasheetVersion: Apr-2008; PackageVersion: revA, Jul-2004; PackageReference: SQA48D; Publisher: Altium Limited; PackageDescription: LLP, Quad, 7 x 7 x 0.8mm, 48 Lead, 0.5mm Pitch, 4.1 x 4.1mm Exposed Pad; RoHS: Y; PinCount: 48; DigiKeyPartNumber: DS32EV400-EVK-ND; ComponentLink1Description: DS32EV400 Datasheet; ComponentLink1URL: http://www.national.com/ds/DS/DS32EV400.pdf; ComponentLink2Description: DS32EV400 Web Page; ComponentLink2URL: http://www.national.com/pf/DS/DS32EV400.html; ComponentLink3Description: SQA48D Package Page; ComponentLink3URL: http://www.national.com/packaging/folders/sqa48d.html
footprint SQA48D (QFN, 48-Leads, Body 7x7mm, Pitch 0.5mm, NSC Recommended)
pins: 1 IN_0+ (in), 2 IN_0- (in), 3 VDD (power), 4 IN_1+ (in), 5 IN_1- (in), 6 VDD (power), 7 VDD (power), 8 IN_2+ (in), 9 IN_2- (in), 10 VDD (power), 11 IN_3+ (in), 12 IN_3- (in), 13 VDD (power), 14 BST_1 (in), 15 VDD (power), 16 CS (in), 17 SDC (in), 18 SDA (io), 19 RESERVE, 20 RESERVE, 21 FEB (in), 22 GND (power), 23 BST_0 (in), 24 GND (power), 25 OUT_3- (out), 26 OUT_3+ (out), 27 GND (power), 28 OUT_2- (out), 29 OUT_2+ (out), 30 GND (power), 31 GND (power), 32 OUT_1- (out), 33 OUT_1+ (out), 34 GND (power), 35 OUT_0- (out), 36 OUT_0+ (out), 37 BST_2 (in), 38 EN3 (in), 39 SD3 (out), 40 EN2 (in), 41 SD2 (out), 42 EN1 (in), 43 SD1 (out), 44 EN0 (in), 45 SD0 (out), 46 VDD (power), 47 RESERVE, 48 RESERVE, 49 GND (power)

## DS34C86TM
designator U?
Quad CMOS Differential Line Receiver; PartNumber: DS34C86TM; Manufacturer: National Semiconductor; CompType: Interface IC; PackageTopMarking: NSUZXYTT*DS34C86TM; PowerWise: N; Published: 4-Dec-2008; DatasheetVersion: Jun-1998; PackageVersion: revJ, Aug-1995; PackageReference: M16A; Publisher: Altium Limited; PackageDescription: Molded Package, S.O., .150in Wide, 16 Lead; RoHS: O; PinCount: 16; DigiKeyPartNumber: DS34C86TM-ND; Code_JEDEC: MS-012-AC; Code_IPC: SOIC127P600-16; ComponentLink1Description: DS34C86T Datasheet; ComponentLink1URL: http://www.national.com/ds/DS/DS34C86T.pdf; ComponentLink2Description: DS34C86T Web Page; ComponentLink2URL: http://www.national.com/pf/DS/DS34C86T.html; ComponentLink3Description: M16A Package Page; ComponentLink3URL: http://www.national.com/packaging/folders/m16a.html
footprint M16A_N (SOIC, 16-Leads, Body 9.9x3.9mm, Pitch 1.27mm, IPC Medium Density)
footprint M16A_L (SOIC, 16-Leads, Body 9.9x3.9mm, Pitch 1.27mm, IPC High Density)
footprint M16A_M (SOIC, 16-Leads, Body 9.9x3.9mm, Pitch 1.27mm, IPC Low Density)
pins: 1 IN A- (in), 2 IN A+ (in), 3 OUT A (hiz), 4 EN A/C (in), 5 OUT C (hiz), 6 IN C+ (in), 7 IN C- (in), 8 GND (power), 9 IN D- (in), 10 IN D+ (in), 11 OUT D (hiz), 12 EN B/D (in), 13 OUT B (hiz), 14 IN B+ (in), 15 IN B- (in), 16 VCC (power)

## DS34C87TM
designator U?
CMOS Quad Tri-State Differential Line Driver; PartNumber: DS34C87TM; Manufacturer: National Semiconductor; CompType: Interface IC; PackageTopMarking: NSUZXYTT*DS34C87TM; PowerWise: N; Published: 4-Dec-2008; DatasheetVersion: Apr-2002; PackageVersion: revJ, Aug-1995; PackageReference: M16A; Publisher: Altium Limited; PackageDescription: Molded Package, S.O., .150in Wide, 16 Lead; RoHS: O; PinCount: 16; DigiKeyPartNumber: DS34C87TM-ND; Code_JEDEC: MS-012-AC; Code_IPC: SOIC127P600-16; ComponentLink1Description: DS34C87T Datasheet; ComponentLink1URL: http://www.national.com/ds/DS/DS34C87T.pdf; ComponentLink2Description: DS34C87T Web Page; ComponentLink2URL: http://www.national.com/pf/DS/DS34C87T.html; ComponentLink3Description: M16A Package Page; ComponentLink3URL: http://www.national.com/packaging/folders/m16a.html
footprint M16A_N (SOIC, 16-Leads, Body 9.9x3.9mm, Pitch 1.27mm, IPC Medium Density)
footprint M16A_L (SOIC, 16-Leads, Body 9.9x3.9mm, Pitch 1.27mm, IPC High Density)
footprint M16A_M (SOIC, 16-Leads, Body 9.9x3.9mm, Pitch 1.27mm, IPC Low Density)
pins: 1 IN A (in), 2 OUT A (hiz), 3 ~{OUT} A (hiz), 4 A/B CNTL (in), 5 ~{OUT} B (hiz), 6 OUT B (hiz), 7 IN B (in), 8 GND (power), 9 IN C (in), 10 OUT C (hiz), 11 ~{OUT} C (hiz), 12 C/D CNTL (in), 13 ~{OUT} D (hiz), 14 OUT D (hiz), 15 IN D (in), 16 VDD (power)

## DS34LV86TM
designator U?
3V Enhanced CMOS Quad Differential Line Receiver; PartNumber: DS34LV86TM; Manufacturer: National Semiconductor; CompType: Interface IC; PackageTopMarking: NSUZXYTT*DS34LV86*TM; PowerWise: N; Published: 4-Dec-2008; DatasheetVersion: Mar-2002; PackageVersion: revJ, Aug-1995; PackageReference: M16A; Publisher: Altium Limited; PackageDescription: Molded Package, S.O., .150in Wide, 16 Lead; RoHS: O; PinCount: 16; DigiKeyPartNumber: DS34LV86TM-ND; Code_JEDEC: MS-012-AC; Code_IPC: SOIC127P600-16; ComponentLink1Description: DS34LV86T Datasheet; ComponentLink1URL: http://www.national.com/ds/DS/DS34LV86T.pdf; ComponentLink2Description: DS34LV86T Web Page; ComponentLink2URL: http://www.national.com/pf/DS/DS34LV86T.html; ComponentLink3Description: M16A Package Page; ComponentLink3URL: http://www.national.com/packaging/folders/m16a.html
footprint M16A_N (SOIC, 16-Leads, Body 9.9x3.9mm, Pitch 1.27mm, IPC Medium Density)
footprint M16A_L (SOIC, 16-Leads, Body 9.9x3.9mm, Pitch 1.27mm, IPC High Density)
footprint M16A_M (SOIC, 16-Leads, Body 9.9x3.9mm, Pitch 1.27mm, IPC Low Density)
pins: 1 RI1- (in), 2 RI1+ (in), 3 RO1 (out), 4 EN (in), 5 RO2 (out), 6 RI2+ (in), 7 RI2- (in), 8 GND (power), 9 RI3- (in), 10 RI3+ (in), 11 RO3 (out), 12 EN (in), 13 RO4 (out), 14 RI4+ (in), 15 RI4- (in), 16 VCC (power)

## DS34LV87TM
designator U?
Enhanced CMOS Quad Differential Line Driver; PartNumber: DS34LV87TM; Manufacturer: National Semiconductor; CompType: Interface IC; PackageTopMarking: NSUZXYTT*DS34LV87*TM; PowerWise: N; Published: 4-Dec-2008; DatasheetVersion: Nov-2000; PackageVersion: revJ, Aug-1995; PackageReference: M16A; Publisher: Altium Limited; PackageDescription: Molded Package, S.O., .150in Wide, 16 Lead; RoHS: O; PinCount: 16; DigiKeyPartNumber: DS34LV87TM-ND; Code_JEDEC: MS-012-AC; Code_IPC: SOIC127P600-16; ComponentLink1Description: DS34LV87T Datasheet; ComponentLink1URL: http://www.national.com/ds/DS/DS34LV87T.pdf; ComponentLink2Description: DS34LV87T Web Page; ComponentLink2URL: http://www.national.com/pf/DS/DS34LV87T.html; ComponentLink3Description: M16A Package Page; ComponentLink3URL: http://www.national.com/packaging/folders/m16a.html
footprint M16A_N (SOIC, 16-Leads, Body 9.9x3.9mm, Pitch 1.27mm, IPC Medium Density)
footprint M16A_L (SOIC, 16-Leads, Body 9.9x3.9mm, Pitch 1.27mm, IPC High Density)
footprint M16A_M (SOIC, 16-Leads, Body 9.9x3.9mm, Pitch 1.27mm, IPC Low Density)
pins: 1 DI1 (in), 2 DO1+ (out), 3 DO1- (out), 4 EN (in), 5 DO2- (out), 6 DO2+ (out), 7 DI2 (in), 8 GND (power), 9 DI3 (in), 10 DO3+ (out), 11 DO3- (out), 12 EN (in), 13 DO4- (out), 14 DO4+ (out), 15 DI4 (in), 16 VCC (power)

## DS34RT5110SQ
designator U?
DVI, HDMI Retimer with Input Equalization and Output  De-Emphasis; PartNumber: DS34RT5110SQ; Manufacturer: National Semiconductor; CompType: Interface IC; PackageTopMarking: NS*UZXYTT*34RT5110; PowerWise: N; Published: 29-May-2009; DatasheetVersion: Apr-2009; PackageVersion: revA, May-2003; PackageReference: SQA48A; Publisher: Altium Limited; RoHS: Y; PinCount: 48; Code_JEDEC: MO-220-WKKD-2; ComponentLink1Description: DS34RT5110 Datasheet; ComponentLink1URL: http://www.national.com/ds/DS/DS34RT5110.pdf; ComponentLink2Description: DS34RT5110 Web Page; ComponentLink2URL: http://www.national.com/pf/DS/DS34RT5110.html; ComponentLink3Description: SQA48A Package Page; ComponentLink3URL: http://www.national.com/packaging/folders/sqa48a.html
footprint SQA48A (QFN, 48-Leads, Body 7x7mm, Pitch 0.5mm, NSC Recommended)
pins: 1 C_IN- (in), 2 C_IN+ (in), 3 VDD (power), 4 D_IN0- (in), 5 D_IN0+ (in), 6 VDD (power), 7 VDD (power), 8 D_IN1- (in), 9 D_IN1+ (in), 10 VDD (power), 11 D_IN2- (in), 12 D_IN2+ (in), 13 VDD (power), 14 LOCK (out), 15 VDD (power), 16 RSRV, 17 RSRV, 18 RSRV, 19 RSRV, 20 RSRV, 21 MODE (power), 22 GND (power), 23 RSRV, 24 GND (power), 25 D_OUT2+ (out), 26 D_OUT2- (out), 27 GND (power), 28 D_OUT1+ (out), 29 D_OUT1- (out), 30 GND (power), 31 GND (power), 32 D_OUT0+ (out), 33 D_OUT0- (out), 34 GND (power), 35 C_OUT+ (out), 36 C_OUT- (out), 37 EQ2 (in), 38 EQ1 (in), 39 EQ0 (in), 40 LFp (power), 41 LFn, 42 DE1 (out), 43 DE0 (out), 44 EN, 45 SD (out), 46 VDD (power), 47 BYPASS, 48 VOD_CRL (out), 49 DAP

## DS36C200M
designator U?
Dual High Speed Bi-Directional Differential Transceiver; PartNumber: DS36C200M; Manufacturer: National Semiconductor; CompType: Interface IC; PackageTopMarking: NSUZXYTT*DS36C200M; PowerWise: N; Published: 4-Dec-2008; DatasheetVersion: Feb-2005; PackageVersion: revJ, Jan-1996; PackageReference: M14A; Publisher: Altium Limited; PackageDescription: Molded Package, S.O., .150in Wide, 14 Lead; RoHS: Y; PinCount: 14; DigiKeyPartNumber: DS36C200M-ND; Code_JEDEC: MS-012AB; Code_IPC: SOIC127P600-14; ComponentLink1Description: DS36C200 Datasheet; ComponentLink1URL: http://www.national.com/ds/DS/DS36C200.pdf; ComponentLink2Description: DS36C200 Web Page; ComponentLink2URL: http://www.national.com/pf/DS/DS36C200.html; ComponentLink3Description: M14A Package Page; ComponentLink3URL: http://www.national.com/packaging/folders/m14a.html
footprint M14A_N (SOIC, 14-Leads, Body 8.6x3.9mm, Pitch 1.27mm, IPC Medium Density)
footprint M14A_L (SOIC, 14-Leads, Body 8.6x3.9mm, Pitch 1.27mm, IPC High Density)
footprint M14A_M (SOIC, 14-Leads, Body 8.6x3.9mm, Pitch 1.27mm, IPC Low Density)
pins: 1 DI/RO1 (io), 2 VCC (power), 3 DE (in), 4 ~{RE} (in), 5 GND (power), 6 NC, 7 DI/RO2 (io), 8 NC, 9 NC, 10 DO/RI2+ (io), 11 DO/RI2- (io), 12 DO/RI1- (io), 13 DO/RI1+ (io), 14 NC

## DS36C278M
designator U?
Low Power Multipoint TIA/EIA-485 Transceiver; PartNumber: DS36C278M; Manufacturer: National Semiconductor; CompType: Interface IC; PackageTopMarking: NSZXTT*DS36C*278M; PowerWise: N; Published: 4-Dec-2008; DatasheetVersion: Jul-1998; PackageVersion: revL, Sep-2006; PackageReference: M08A; Publisher: Altium Limited; PackageDescription: SOIC Narrow, 4.9 x 3.9 x 1.45mm, 8 Lead, 1.27mm Pitch; RoHS: Y; PinCount: 8; DigiKeyPartNumber: DS36C278M-ND; Code_JEDEC: MS-012-AA; Code_IPC: SOIC127P600-8; ComponentLink1Description: DS36C278 Datasheet; ComponentLink1URL: http://www.national.com/ds/DS/DS36C278.pdf; ComponentLink2Description: DS36C278 Web Page; ComponentLink2URL: http://www.national.com/pf/DS/DS36C278.html; ComponentLink3Description: M08A Package Page; ComponentLink3URL: http://www.national.com/packaging/folders/m08a.html
footprint M08A_N (SOIC, 8-Leads, Body 4.9x3.9mm, Pitch 1.27mm, IPC Medium Density)
footprint M08A_L (SOIC, 8-Leads, Body 4.9x3.9mm, Pitch 1.27mm, IPC High Density)
footprint M08A_M (SOIC, 8-Leads, Body 4.9x3.9mm, Pitch 1.27mm, IPC Low Density)
pins: 1 RO (out), 2 ~{RE} (in), 3 DE (in), 4 DI (in), 5 GND (power), 6 DO/RI (io), 7 ~{DO}/~{RI} (io), 8 VCC (power)

## DS36C278TM
designator U?
Low-Power Multipoint EIA-RS-485 Transceiver; PartNumber: DS36C278TM; Manufacturer: National Semiconductor; CompType: Interface IC; PackageTopMarking: NSZXTT*36C27*8TM; PowerWise: N; Published: 4-Dec-2008; DatasheetVersion: Jul-1998; PackageVersion: revL, Sep-2006; PackageReference: M08A; Publisher: Altium Limited; PackageDescription: SOIC Narrow, 4.9 x 3.9 x 1.45mm, 8 Lead, 1.27mm Pitch; RoHS: O; PinCount: 8; DigiKeyPartNumber: DS36C278TM-ND; Code_JEDEC: MS-012-AA; Code_IPC: SOIC127P600-8; ComponentLink1Description: DS36C278 Datasheet; ComponentLink1URL: http://www.national.com/ds/DS/DS36C278.pdf; ComponentLink2Description: DS36C278 Web Page; ComponentLink2URL: http://www.national.com/pf/DS/DS36C278.html; ComponentLink3Description: M08A Package Page; ComponentLink3URL: http://www.national.com/packaging/folders/m08a.html
footprint M08A_N (SOIC, 8-Leads, Body 4.9x3.9mm, Pitch 1.27mm, IPC Medium Density)
footprint M08A_L (SOIC, 8-Leads, Body 4.9x3.9mm, Pitch 1.27mm, IPC High Density)
footprint M08A_M (SOIC, 8-Leads, Body 4.9x3.9mm, Pitch 1.27mm, IPC Low Density)
pins: 1 RO (out), 2 ~{RE} (in), 3 DE (in), 4 DI (in), 5 GND (power), 6 DO/RI (io), 7 ~{DO}/~{RI} (io), 8 VCC (power)

## DS36C279M
designator U?
Low Power TIA/EIA-485 Transceiver with Sleep Mode; PartNumber: DS36C279M; Manufacturer: National Semiconductor; CompType: Interface IC; PackageTopMarking: NSZXTT*36C27*9M; PowerWise: N; Published: 4-Dec-2008; DatasheetVersion: Jul-2000; PackageVersion: revL, Sep-2006; PackageReference: M08A; Publisher: Altium Limited; PackageDescription: SOIC Narrow, 4.9 x 3.9 x 1.45mm, 8 Lead, 1.27mm Pitch; RoHS: Y; PinCount: 8; DigiKeyPartNumber: DS36C279M-ND; Code_JEDEC: MS-012-AA; Code_IPC: SOIC127P600-8; ComponentLink1Description: DS36C279 Datasheet; ComponentLink1URL: http://www.national.com/ds/DS/DS36C279.pdf; ComponentLink2Description: DS36C279 Web Page; ComponentLink2URL: http://www.national.com/pf/DS/DS36C279.html; ComponentLink3Description: M08A Package Page; ComponentLink3URL: http://www.national.com/packaging/folders/m08a.html
footprint M08A_N (SOIC, 8-Leads, Body 4.9x3.9mm, Pitch 1.27mm, IPC Medium Density)
footprint M08A_L (SOIC, 8-Leads, Body 4.9x3.9mm, Pitch 1.27mm, IPC High Density)
footprint M08A_M (SOIC, 8-Leads, Body 4.9x3.9mm, Pitch 1.27mm, IPC Low Density)
pins: 1 RO (out), 2 ~{RE} (in), 3 DE (in), 4 DI (in), 5 GND (power), 6 DO/RI (io), 7 ~{DO}/~{RI} (io), 8 VCC (power)

## DS36C279TM
designator U?
Low-Power Multipoint EIA-RS-485 Transceiver with Sleep Mode; PartNumber: DS36C279TM; Manufacturer: National Semiconductor; CompType: Interface IC; PackageTopMarking: NSZXTT*36C27*9TM; Published: 4-Dec-2008; DatasheetVersion: Jul-2000; PackageVersion: revL, Sep-2006; PackageReference: M08A; Publisher: Altium Limited; PackageDescription: SOIC Narrow, 4.9 x 3.9 x 1.45mm, 8 Lead, 1.27mm Pitch; RoHS: Y; PinCount: 8; DigiKeyPartNumber: DS36C279TM-ND; Code_JEDEC: MS-012-AA; Code_IPC: SOIC127P600-8; ComponentLink1Description: DS36C279 Datasheet; ComponentLink1URL: http://www.national.com/ds/DS/DS36C279.pdf; ComponentLink2Description: DS36C279 Web Page; ComponentLink2URL: http://www.national.com/pf/DS/DS36C279.html; ComponentLink3Description: M08A Package Page; ComponentLink3URL: http://www.national.com/packaging/folders/m08a.html
footprint M08A_N (SOIC, 8-Leads, Body 4.9x3.9mm, Pitch 1.27mm, IPC Medium Density)
footprint M08A_L (SOIC, 8-Leads, Body 4.9x3.9mm, Pitch 1.27mm, IPC High Density)
footprint M08A_M (SOIC, 8-Leads, Body 4.9x3.9mm, Pitch 1.27mm, IPC Low Density)
pins: 1 RO (out), 2 ~{RE} (in), 3 DE (in), 4 DI (in), 5 GND (power), 6 DO/RI (io), 7 ~{DO}/~{RI} (io), 8 VCC (power)

## DS36C280M
designator U?
Slew Rate Controlled CMOS TIA/EIA-485 Transceiver; PartNumber: DS36C280M; Manufacturer: National Semiconductor; CompType: Interface IC; PackageTopMarking: NSZXTT*36C28*0M; PowerWise: N; Published: 4-Dec-2008; DatasheetVersion: Jul-2000; PackageVersion: revL, Sep-2006; PackageReference: M08A; Publisher: Altium Limited; PackageDescription: SOIC Narrow, 4.9 x 3.9 x 1.45mm, 8 Lead, 1.27mm Pitch; RoHS: Y; PinCount: 8; DigiKeyPartNumber: DS36C280M-ND; Code_JEDEC: MS-012-AA; Code_IPC: SOIC127P600-8; ComponentLink1Description: DS36C280 Datasheet; ComponentLink1URL: http://www.national.com/ds/DS/DS36C280.pdf; ComponentLink2Description: DS36C280 Web Page; ComponentLink2URL: http://www.national.com/pf/DS/DS36C280.html; ComponentLink3Description: M08A Package Page; ComponentLink3URL: http://www.national.com/packaging/folders/m08a.html
footprint M08A_N (SOIC, 8-Leads, Body 4.9x3.9mm, Pitch 1.27mm, IPC Medium Density)
footprint M08A_L (SOIC, 8-Leads, Body 4.9x3.9mm, Pitch 1.27mm, IPC High Density)
footprint M08A_M (SOIC, 8-Leads, Body 4.9x3.9mm, Pitch 1.27mm, IPC Low Density)
pins: 1 RO (out), 2 SR (in), 3 DE/~{RE} (in), 4 DI (in), 5 GND (power), 6 DO/RI (io), 7 ~{DO}/~{RI} (io), 8 VCC (power)

## DS36C280TM
designator U?
Slew Rate Controlled CMOS EIA-RS-485 Transceiver; PartNumber: DS36C280TM; Manufacturer: National Semiconductor; CompType: Interface IC; PackageTopMarking: NSZXTT*36C28*0TM; PowerWise: N; Published: 4-Dec-2008; DatasheetVersion: Jul-2000; PackageVersion: revL, Sep-2006; PackageReference: M08A; Publisher: Altium Limited; PackageDescription: SOIC Narrow, 4.9 x 3.9 x 1.45mm, 8 Lead, 1.27mm Pitch; RoHS: O; PinCount: 8; DigiKeyPartNumber: DS36C280TM-ND; Code_JEDEC: MS-012-AA; Code_IPC: SOIC127P600-8; ComponentLink1Description: DS36C280 Datasheet; ComponentLink1URL: http://www.national.com/ds/DS/DS36C280.pdf; ComponentLink2Description: DS36C280 Web Page; ComponentLink2URL: http://www.national.com/pf/DS/DS36C280.html; ComponentLink3Description: M08A Package Page; ComponentLink3URL: http://www.national.com/packaging/folders/m08a.html
footprint M08A_N (SOIC, 8-Leads, Body 4.9x3.9mm, Pitch 1.27mm, IPC Medium Density)
footprint M08A_L (SOIC, 8-Leads, Body 4.9x3.9mm, Pitch 1.27mm, IPC High Density)
footprint M08A_M (SOIC, 8-Leads, Body 4.9x3.9mm, Pitch 1.27mm, IPC Low Density)
pins: 1 RO (out), 2 SR (in), 3 DE/~{RE} (in), 4 DI (in), 5 GND (power), 6 DO/RI (io), 7 ~{DO}/~{RI} (io), 8 VCC (power)

## DS36F95M
designator U?
EIA-485/EIA-422A Differential Bus Transceiver; PartNumber: DS36F95M; Manufacturer: National Semiconductor; CompType: Interface IC; PackageTopMarking: NSZXTT*DS36F*95M; Published: 4-Dec-2008; DatasheetVersion: Jun-1998; PackageVersion: revL, Sep-2006; PackageReference: M08A; Publisher: Altium Limited; PackageDescription: SOIC Narrow, 4.9 x 3.9 x 1.45mm, 8 Lead, 1.27mm Pitch; RoHS: O; PinCount: 8; DigiKeyPartNumber: DS36F95M-ND; Code_JEDEC: MS-012-AA; Code_IPC: SOIC127P600-8; ComponentLink1Description: DS36F95 Datasheet; ComponentLink1URL: http://www.national.com/ds/DS/DS36F95.pdf; ComponentLink2Description: DS36F95 Web Page; ComponentLink2URL: http://www.national.com/pf/DS/DS36F95.html; ComponentLink3Description: M08A Package Page; ComponentLink3URL: http://www.national.com/packaging/folders/m08a.html
footprint M08A_N (SOIC, 8-Leads, Body 4.9x3.9mm, Pitch 1.27mm, IPC Medium Density)
footprint M08A_L (SOIC, 8-Leads, Body 4.9x3.9mm, Pitch 1.27mm, IPC High Density)
footprint M08A_M (SOIC, 8-Leads, Body 4.9x3.9mm, Pitch 1.27mm, IPC Low Density)
pins: 1 RO (out), 2 ~{RE} (in), 3 DE (in), 4 DI (in), 5 GND (power), 6 A (io), 7 ~{B} (io), 8 VCC (power)

## DS38EP100SD
designator U?
1 to 5 Gbps, Power-Saver Equalizer for Backplanes and Cables; PartNumber: DS38EP100SD; Manufacturer: National Semiconductor; CompType: Interface IC; PackageTopMarking: XTT*38S; PowerWise: Y; Published: 4-Dec-2008; DatasheetVersion: Jul-2007; PackageVersion: revA, Nov-2003; PackageReference: SDB06A; Publisher: Altium Limited; PackageDescription: LLP, Plastic, Dual, 2.2 x 2.5 x 0.8mm Body, 6 Lead, 0.65mm Pitch, No Pullback; RoHS: Y; PinCount: 6; DigiKeyPartNumber: DS38EP100SDTR-ND; ComponentLink1Description: DS38EP100 Datasheet; ComponentLink1URL: http://www.national.com/ds/DS/DS38EP100.pdf; ComponentLink2Description: DS38EP100 Web Page; ComponentLink2URL: http://www.national.com/pf/DS/DS38EP100.html; ComponentLink3Description: SDB06A Package Page; ComponentLink3URL: http://www.national.com/packaging/folders/sdb06a.html
footprint SDB06A (SON, 6-Leads, Body 2.2x2.5mm, Pitch 0.65mm, NSC Recommended (SC-70 Land))
pins: 1 IOA+ (io), 2 NC, 3 IOA- (io), 4 IOB- (io), 5 NC, 6 IOB+ (io), 7 NC

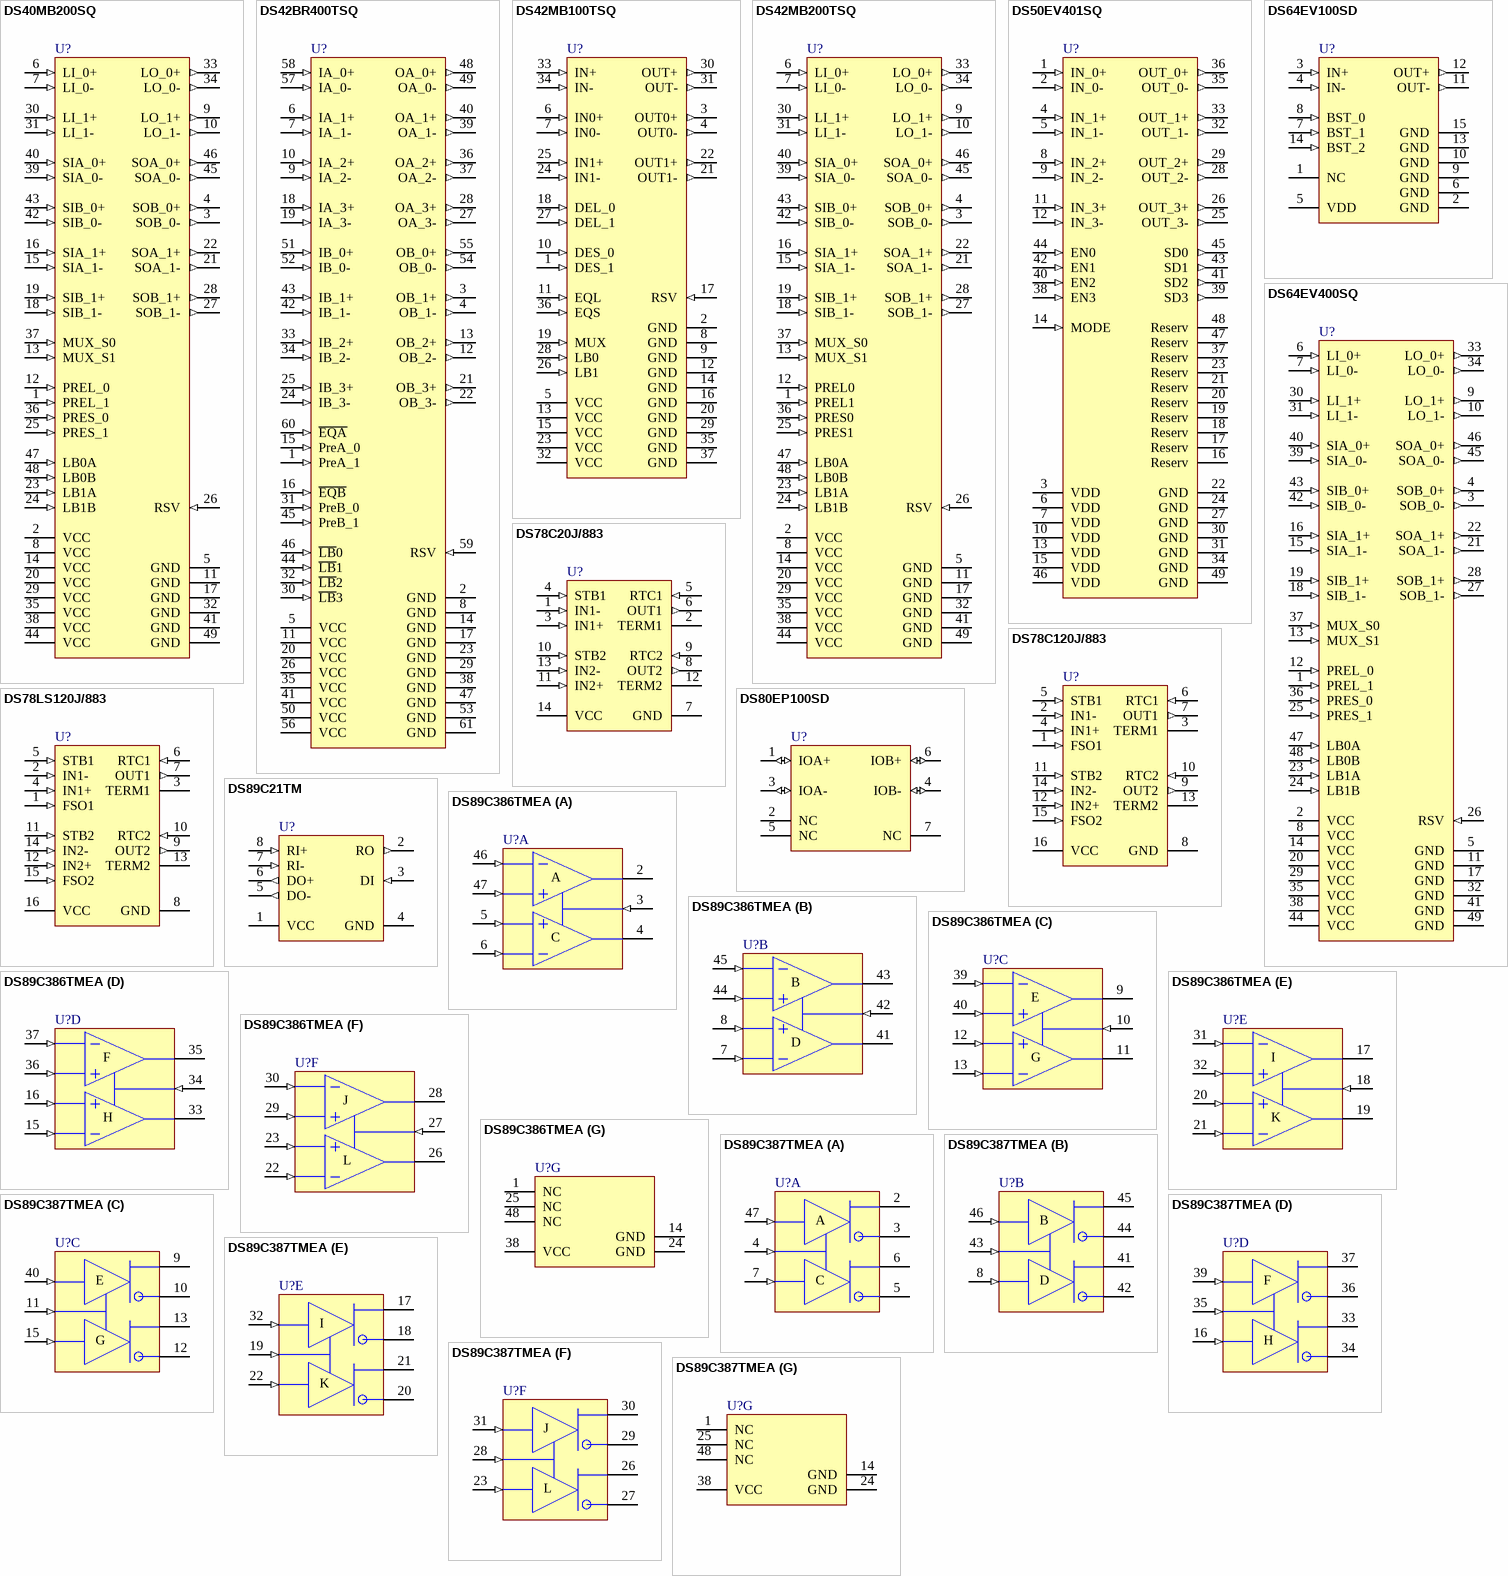
[diagram p11: symbols DS40MB200SQ to DS89C387TMEA]